# EAGLE library part ENC_EVQWK4 (library wheat)
Thumbwheel encoder Panasonic EVQ-WK4
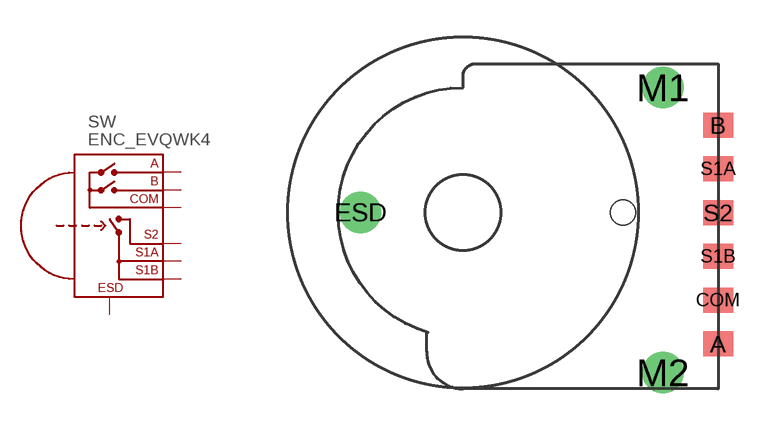
[diagram p98: symbol with the pads of ENC_EVQWK4; footprint ENC_EVQWK4]

Designator prefix SW

## ENC_EVQWK4  [ENC_EVQWK4]
A  A  pas
B  B  pas
COM  COM  pas
ESD  P$1  pas
S1A  S1A  pas
S1B  S1B  pas
S2  S2  pas

## Footprint ENC_EVQWK4 (pad centres in mm)
Thumbwheel encoder Panasonic EVQWK4
smd 1.2 x 1: A 10.2,-5.25; B 10.2,3.5; COM 10.2,-3.5; S1A 10.2,1.75; S1B 10.2,-1.75; S2 10.2,0
drill 1.1: ESD -4.1,0; M1 8,5; M2 8,-6.4
hole 1.016 at 6.4,0